# EAGLE library part SX1308 (library LoRa Gateway)
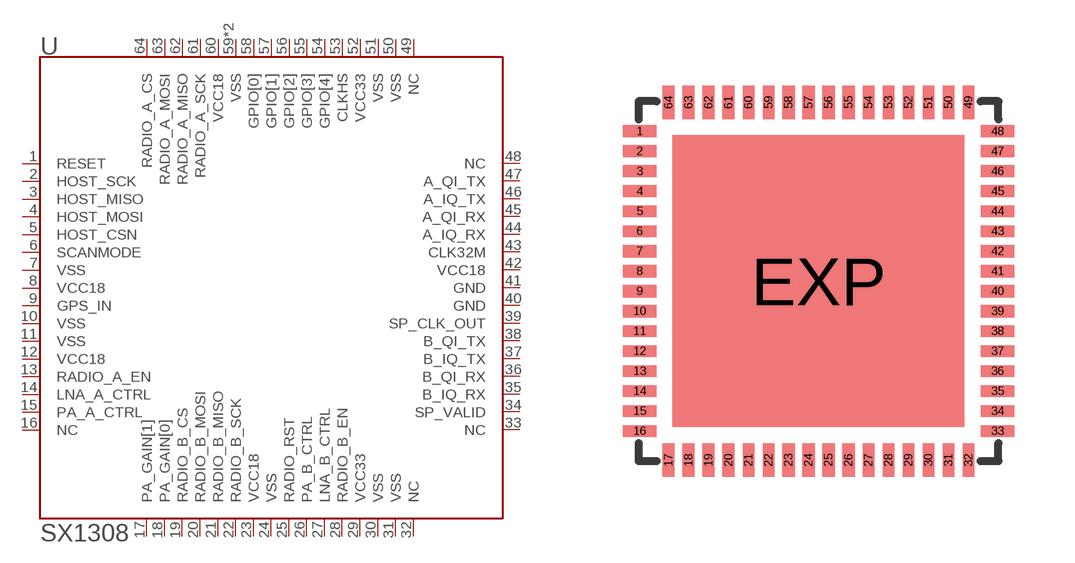
[diagram p5: symbol with the pads of QFN64-9X9; footprint QFN64-9X9]

Designator prefix U

## SX1308  [QFN64-9X9]
1  RESET
2  HOST_SCK
3  HOST_MISO
4  HOST_MOSI
5  HOST_CSN
6  SCANMODE
7  VSS
8  VCC18
9  GPS_IN
10  VSS
11  VSS
12  VCC18
13  RADIO_A_EN
14  LNA_A_CTRL
15  PA_A_CTRL
16  NC
17  PA_GAIN[1]
18  PA_GAIN[0]
19  RADIO_B_CS
20  RADIO_B_MOSI
21  RADIO_B_MISO
22  RADIO_B_SCK
23  VCC18
24  VSS
25  RADIO_RST
26  PA_B_CTRL
27  LNA_B_CTRL
28  RADIO_B_EN
29  VCC33
30  VSS
31  VSS
32  NC
33  NC
34  SP_VALID
35  B_IQ_RX
36  B_QI_RX
37  B_IQ_TX
38  B_QI_TX
39  SP_CLK_OUT
40  GND
41  GND
42  VCC18
43  CLK32M
44  A_IQ_RX
45  A_QI_RX
46  A_IQ_TX
47  A_QI_TX
48  NC
49  NC
50  VSS
51  VSS
52  VCC33
53  CLKHS
54  GPIO[4]
55  GPIO[3]
56  GPIO[2]
57  GPIO[1]
58  GPIO[0]
59  VSS
60  VCC18
61  RADIO_A_SCK
62  RADIO_A_MISO
63  RADIO_A_MOSI
64  RADIO_A_CS
EXP  VSS

## Footprint QFN64-9X9 (pad centres in mm)
QFN64-9X9 Source: http://www.gennum.com/video/pdf/36655DOC.pdf
smd 0.85 x 0.3: 1 -4.475,3.75; 2 -4.475,3.25; 3 -4.475,2.75; 4 -4.475,2.25; 5 -4.475,1.75; 6 -4.475,1.25; 7 -4.475,0.75; 8 -4.475,0.25; 9 -4.475,-0.25; 10 -4.475,-0.75; 11 -4.475,-1.25; 12 -4.475,-1.75; 13 -4.475,-2.25; 14 -4.475,-2.75; 15 -4.475,-3.25; 16 -4.475,-3.75; 33 4.475,-3.75; 34 4.475,-3.25; 35 4.475,-2.75; 36 4.475,-2.25; 37 4.475,-1.75; 38 4.475,-1.25; 39 4.475,-0.75; 40 4.475,-0.25; 41 4.475,0.25; 42 4.475,0.75; 43 4.475,1.25; 44 4.475,1.75; 45 4.475,2.25; 46 4.475,2.75; 47 4.475,3.25; 48 4.475,3.75
smd 0.3 x 0.85: 17 -3.75,-4.475; 18 -3.25,-4.475; 19 -2.75,-4.475; 20 -2.25,-4.475; 21 -1.75,-4.475; 22 -1.25,-4.475; 23 -0.75,-4.475; 24 -0.25,-4.475; 25 0.25,-4.475; 26 0.75,-4.475; 27 1.25,-4.475; 28 1.75,-4.475; 29 2.25,-4.475; 30 2.75,-4.475; 31 3.25,-4.475; 32 3.75,-4.475; 49 3.75,4.475; 50 3.25,4.475; 51 2.75,4.475; 52 2.25,4.475; 53 1.75,4.475; 54 1.25,4.475; 55 0.75,4.475; 56 0.25,4.475; 57 -0.25,4.475; 58 -0.75,4.475; 59 -1.25,4.475; 60 -1.75,4.475; 61 -2.25,4.475; 62 -2.75,4.475; 63 -3.25,4.475; 64 -3.75,4.475
smd 7.3 x 7.3: EXP 0,0